# Altium footprint library Magjack RJ45 RB1-125BAG1A.PcbLib: 1 footprints
Each footprint in its own frame and in the unit in brackets; x right, y up, seen from the top. Pads: shape width x height; smd on the part's side, far side on the other; paste and mask are expansions set on the pad; w line width, h text height; cw(c..) or ccw(c..) is an arc to the next point about the centre after c.
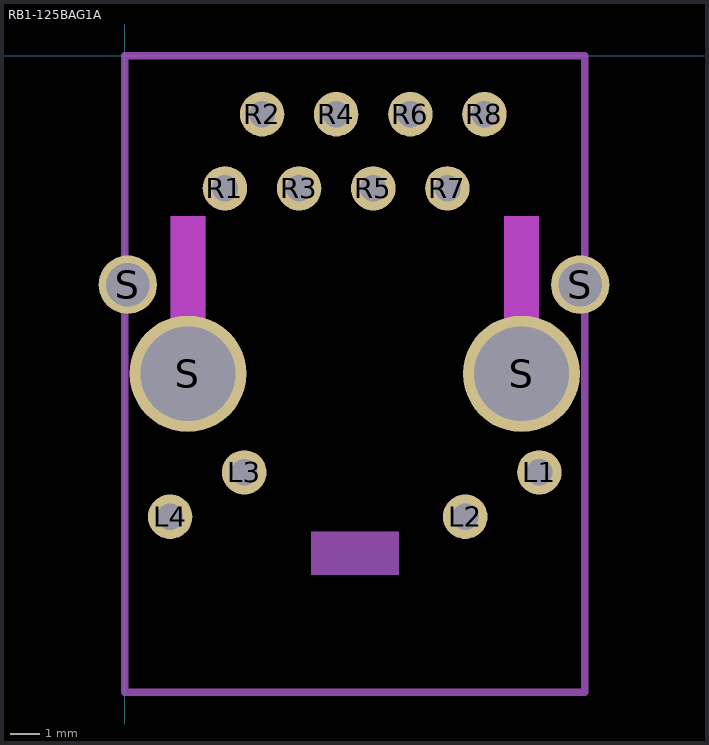
[diagram p0: the footprint, top view; thin cyan lines are the x and y axes]

## RB1-125BAG1A [mm] "MAGJACK RJ45"
pads (16):
  round 1.524 hole 0.9: L1(14.2,-14.27) L2(11.66,-15.79) L3(4.09,-14.27) L4(1.55,-15.79) R1(3.43,-4.54) R2(4.7,-2) R3(5.97,-4.54) R4(7.24,-2) R5(8.51,-4.54) R6(9.78,-2) R7(11.05,-4.54) R8(12.32,-2)
  round 2 hole 1.5: S(0.1,-7.84) S(15.6,-7.84)
  round 4 hole 3.25: S(2.16,-10.89) S(13.59,-10.89)
Mechanical 1:
  rectangle: 6.375,-17.79 9.385,-16.29
  lines w0.254: 0,-21.8 0,-6.05 0,0 15.75,0 15.75,-21.8 0,-21.8
Mechanical 1 keep-out:
  rectangle: 12.99,-10.89 14.19,-5.49
  rectangle: 1.56,-10.89 2.76,-5.49